# Altium schematic symbol library AMM-2742-T-R.SchLib: 1 symbol
Pins are listed as number, name and electrical type; pins without a type are passive.

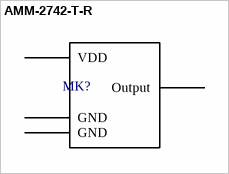
[diagram p0: symbol AMM-2742-T-R]

## AMM-2742-T-R
designator MK?  (value not drawn)
PartNumber: AMM-2742-T-R; PartDescription: MICROPHONE MEMS ANALOG OMNI; Manufacturer: PUI Audio, Inc.; Package Type: 4 SMD; Supplier 1: Digi-Key; Supplier Part Number 1: 668-AMM-2742-T-RCT-ND
footprint AMM-2742-T-R
pins: 1 Output, 2 GND, 3 GND, 4 VDD